# Altium footprint library SIP250W50P254L1275H508Q5.PcbLib: 1 footprints
Each footprint in its own frame and in the unit in brackets; x right, y up, seen from the top. Pads: shape width x height; smd on the part's side, far side on the other; paste and mask are expansions set on the pad; w line width, h text height; cw(c..) or ccw(c..) is an arc to the next point about the centre after c.
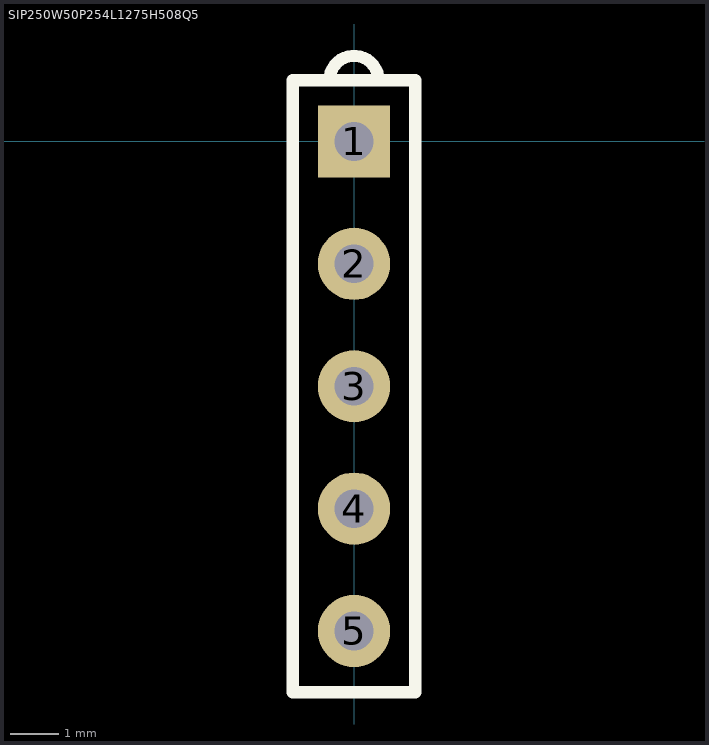
[diagram p0: the footprint, top view; thin cyan lines are the x and y axes]

## SIP250W50P254L1275H508Q5 [mm] "Resistor Array Pitch 2.54mm Len 12.75mm Width 2.5mm"
height 5.08
pads (5):
  rect 1.5x1.5 hole 0.8: 1(0,0)
  round 1.5 hole 0.8: 2(0,-2.54) 3(0,-5.08) 4(0,-7.62) 5(0,-10.16)
Top Overlay:
  lines w0.254: -0.508,1.27 cw(c0,1.27) 0.508,1.27 ; -1.27,-11.43 1.27,-11.43 1.27,1.27 -1.27,1.27 -1.27,-11.43